# Altium footprint library SOD-523.PcbLib: 1 footprints
Each footprint in its own frame and in the unit in brackets; x right, y up, seen from the top. Pads: shape width x height; smd on the part's side, far side on the other; paste and mask are expansions set on the pad; w line width, h text height; cw(c..) or ccw(c..) is an arc to the next point about the centre after c.
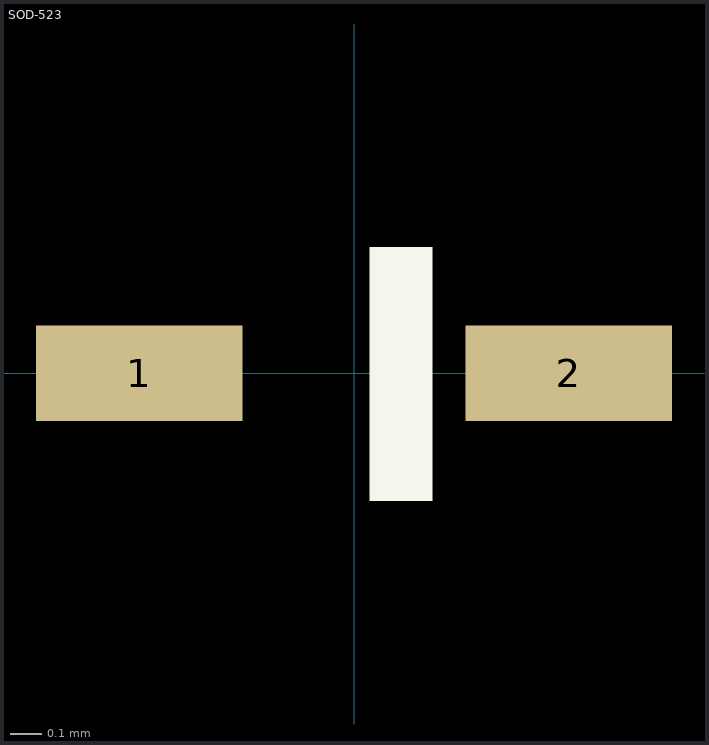
[diagram p0: the footprint, top view; thin cyan lines are the x and y axes]

## SOD-523 [mm]
pads (2):
  rect 0.65x0.3 smd: 1(-0.675,0) 2(0.675,0)
Top Overlay:
  rectangle: 0.048,-0.401 0.246,0.397
3D body "SOD-523F.step": height 0.7, standoff 0, extent -0.8,-0.399 0.8,0.399